# Altium footprint library Adafruit ESP8266 Feather rev E.PcbLib: 21 footprints (part 1 of 2)
Each footprint in its own frame and in the unit in brackets; x right, y up, seen from the top. Pads: shape width x height; smd on the part's side, far side on the other; paste and mask are expansions set on the pad; w line width, h text height; cw(c..) or ccw(c..) is an arc to the next point about the centre after c.
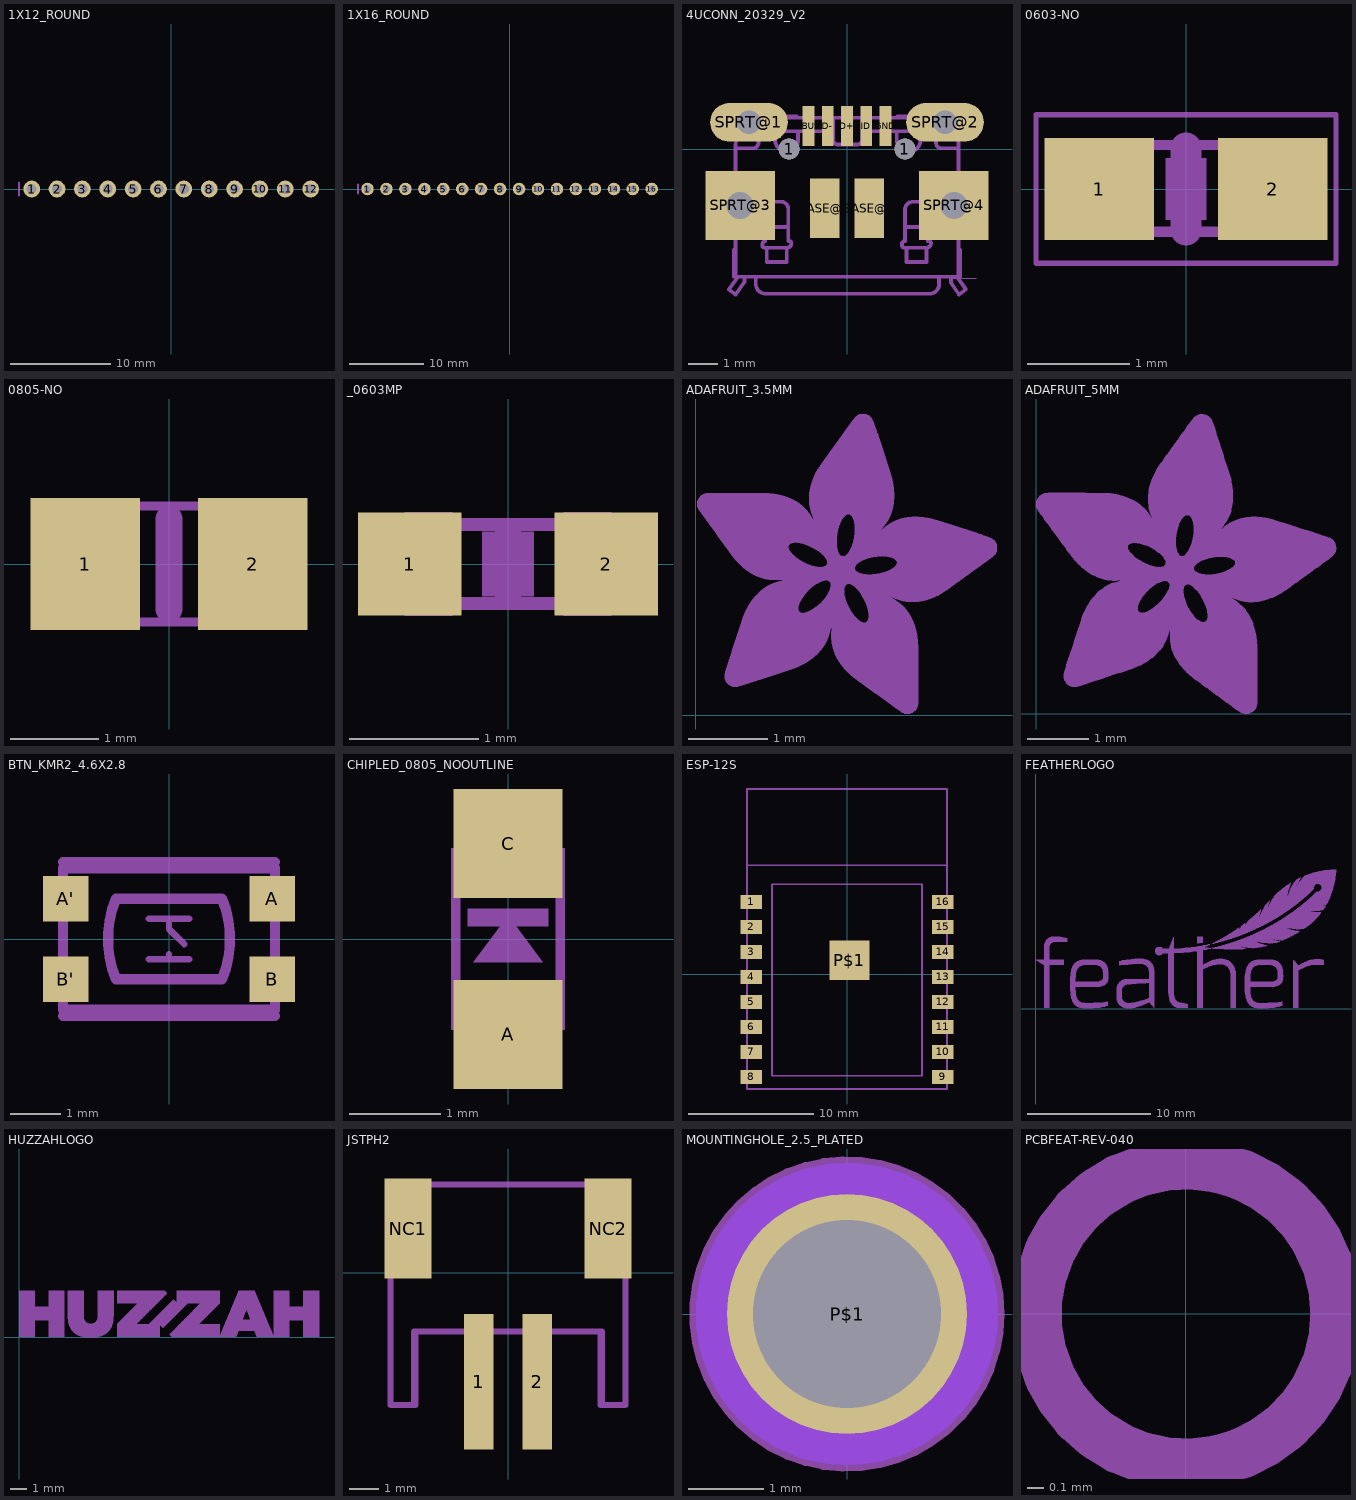
[diagram p0: the footprints below, top view; thin cyan lines are the x and y axes]

## 1X12_ROUND [mil] "1X12_ROUND"
pads (12):
  round 66 / inner round 60 / far side round 66 hole 39.37: 1(-550,0) 2(-450,0) 3(-350,0) 4(-250,0) 5(-150,0) 6(-50,0) 7(50,0) 8(150,0) 9(250,0) 10(350,0) 11(450,0) 12(550,0)
Mechanical 8:
  region: 540,-10 540,10 560,10 560,-10
  region: 440,-10 440,10 460,10 460,-10
  region: 340,-10 340,10 360,10 360,-10
  region: -560,-10 -560,10 -540,10 -540,-10
  region: -460,-10 -460,10 -440,10 -440,-10
  region: -360,-10 -360,10 -340,10 -340,-10
  region: -260,-10 -260,10 -240,10 -240,-10
  region: -160,-10 -160,10 -140,10 -140,-10
  region: -60,-10 -60,10 -40,10 -40,-10
  region: 40,-10 40,10 60,10 60,-10
  region: 140,-10 140,10 160,10 160,-10
  region: 240,-10 240,10 260,10 260,-10
  lines w8: -600,-25 -600,25

## 1X16_ROUND [mil] "1X16_ROUND"
pads (16):
  round 66 / inner round 60 / far side round 66 hole 39.37: 1(-750,0) 2(-650,0) 3(-550,0) 4(-450,0) 5(-350,0) 6(-250,0) 7(-150,0) 8(-50,0) 9(50,0) 10(150,0) 11(250,0) 12(350,0) 13(450,0) 14(550,0) 15(650,0) 16(750,0)
Mechanical 8:
  region: 740,-10 740,10 760,10 760,-10
  region: -760,-10 -760,10 -740,10 -740,-10
  region: -660,-10 -660,10 -640,10 -640,-10
  region: -560,-10 -560,10 -540,10 -540,-10
  region: -460,-10 -460,10 -440,10 -440,-10
  region: -360,-10 -360,10 -340,10 -340,-10
  region: -260,-10 -260,10 -240,10 -240,-10
  region: -160,-10 -160,10 -140,10 -140,-10
  region: -60,-10 -60,10 -40,10 -40,-10
  region: 40,-10 40,10 60,10 60,-10
  region: 140,-10 140,10 160,10 160,-10
  region: 240,-10 240,10 260,10 260,-10
  region: 340,-10 340,10 360,10 360,-10
  region: 440,-10 440,10 460,10 460,-10
  region: 540,-10 540,10 560,10 560,-10
  region: 640,-10 640,10 660,10 660,-10
  lines w8: -800,-25 -800,25

## 4UCONN_20329_V2 [mm] "4UCONN_20329_V2"
pads (13):
  round 0.7 hole 0.7 unplated: 1(-1.95,0) 1(1.95,0)
  rect 1x2 smd: BASE@1(-0.75,-2) BASE@2(0.75,-2)
  rect 0.4x1.35 smd paste+0 mask+0: D+(0,0.775) D-(-0.65,0.775) GND(1.3,0.775) ID(0.65,0.775) VBUS(-1.3,0.775)
  oval 2.616x1.308 / inner round 1.524 / far side oval 2.616x1.308 hole 0.8: SPRT@1(-3.3,0.9) SPRT@2(3.3,0.9)
  rect 2.336x2.336 / inner rect 1.524x1.524 / far side rect 2.336x2.336 hole 0.9: SPRT@3(-3.6,-1.9) SPRT@4(3.6,-1.9)
Top Paste:
  region: 2.75,0.9 2.755,0.786 2.852,0.578 3.021,0.423 3.236,0.345 3.35,0.35 4.45,0.35 4.564,0.345 4.78,0.423 4.948,0.578 5.045,0.786 5.05,0.9 5.045,1.014 4.948,1.222 4.78,1.377 4.564,1.455 4.45,1.45 3.35,1.45 3.236,1.455 3.02,1.377 2.852,1.222 2.755,1.014
  region: -5.05,0.9 -5.045,0.786 -4.948,0.578 -4.78,0.423 -4.564,0.345 -4.45,0.35 -3.35,0.35 -3.236,0.345 -3.021,0.423 -2.852,0.578 -2.755,0.786 -2.75,0.9 -2.755,1.014 -2.852,1.222 -3.02,1.377 -3.236,1.455 -3.35,1.45 -4.45,1.45 -4.564,1.455 -4.78,1.377 -4.948,1.222 -5.045,1.014
  region: 1.15,0.15 1.15,1.4 1.45,1.4 1.45,0.15
  region: 0.5,0.15 0.5,1.4 0.8,1.4 0.8,0.15
  region: -0.15,0.15 -0.15,1.4 0.15,1.4 0.15,0.15
  region: -0.8,0.15 -0.8,1.4 -0.5,1.4 -0.5,0.15
  region: -1.45,0.15 -1.45,1.4 -1.15,1.4 -1.15,0.15
  region: 2.35,-3.15 2.35,-0.65 4.85,-0.65 4.85,-3.15
  region: -4.85,-3.15 -4.85,-0.65 -2.35,-0.65 -2.35,-3.15
Top Solder:
  region: 1.05,0.05 1.05,1.5 1.55,1.5 1.55,0.05
  region: 0.4,0.05 0.4,1.5 0.9,1.5 0.9,0.05
  region: -0.25,0.05 -0.25,1.5 0.25,1.5 0.25,0.05
  region: -0.9,0.05 -0.9,1.5 -0.4,1.5 -0.4,0.05
  region: -1.55,0.05 -1.55,1.5 -1.05,1.5 -1.05,0.05
Mechanical 1:
  lines w0: -4.05,-2.15 ccw(c-3.675,-2.175) -3.7,-2.55 -3.5,-2.55 ccw(c-3.525,-2.175) -3.15,-2.15 -3.15,-1.6 ccw(c-3.5,-1.6) -3.5,-1.25 -3.7,-1.25 ccw(c-3.7,-1.6) -4.05,-1.6 -4.05,-2.15 ; 3.15,-2.2 ccw(c3.55,-2.15) 3.6,-2.55 ccw(c3.65,-2.15) 4.05,-2.2 4.05,-1.6 ccw(c3.65,-1.65) 3.6,-1.25 ccw(c3.55,-1.65) 3.15,-1.6 3.15,-2.2
Mechanical 8:
  lines w0: 3.5,-4.35 4.35,-4.35
  lines w0.127: -3.725,0.025 -3.175,0.025 ccw(c-3.175,0.225) -2.975,0.225 -2.975,0.45 cw(c-2.825,0.45) -2.825,0.6 ; -3.425,0.625 -3.425,0.75 -3.575,0.75 -3.575,1.05 -0.475,1.05 ; -2,-3.325 -2.7,-3.325 ; -2,-2.625 -2.75,-2.625 ; -0.125,0.175 -0.125,0.65 0.1,0.65 0.1,0.175 ; 2.7,-3.325 2,-3.325 ; 2.7,-2.625 1.95,-2.625 ; 3.5,-4.35 3.5,-4.5 3.775,-4.9 4,-4.725 3.7,-4.3 ; 3.725,0.025 3.175,0.025 cw(c3.175,0.2) 3,0.2 3,0.525 ccw(c2.925,0.525) 2.925,0.6 ; -3.675,-4.3 -3.975,-4.725 -3.75,-4.9 -3.45,-4.475 -3.45,-4.3 ; -3.675,-4.3 -3.75,-4.3 -3.75,0.125 cw(c-3.275,0.125) -3.275,0.6 -2.825,0.6 ; -3.675,-4.3 -3.45,-4.3 ; -3.45,-4.3 -3.075,-4.3 ; -3.075,-4.3 -3.075,-4.525 ccw(c-2.725,-4.525) -2.725,-4.875 2.775,-4.875 ccw(c2.775,-4.55) 3.1,-4.55 3.1,-4.3 ; -3.075,-4.3 3.1,-4.3 ; -2.825,0.6 -2.5,0.6 ; -2.75,-2.625 -2.75,-2.05 cw(c-2.475,-2.05) -2.475,-1.775 -2.225,-1.775 cw(c-2.225,-2.025) -1.975,-2.025 -1.975,-3.1 -1.95,-3.1 cw(c-1.95,-3.175) -1.875,-3.175 cw(c-2.025,-3.175) -2.025,-3.325 -2.025,-3.8 -2.7,-3.8 -2.7,-3.325 ; -2.75,-2.625 -2.75,-3.1 ccw(c-2.75,-3.2) -2.85,-3.2 -2.85,-3.225 ccw(c-2.762,-3.238) -2.775,-3.325 -2.7,-3.325 ; -2.5,0.6 cw(c-2.5,0.525) -2.425,0.525 -2.425,0.325 ccw(c-2,0.325) -2,-0.1 ccw(c-2,0.25) -1.65,0.25 -1.65,0.6 ; -2.5,0.6 -1.65,0.6 ; -1.65,0.6 -0.475,0.6 ; -0.475,0.6 -0.475,1.05 ; -0.475,0.6 -0.475,0.325 ccw(c-0.3,0.325) -0.3,0.15 0.325,0.15 ccw(c0.325,0.35) 0.525,0.35 0.525,0.6 ; -0.475,1.05 0.525,1.05 ; 0.525,0.6 0.525,1.05 ; 0.525,0.6 1.675,0.6 ; 0.525,1.05 3.6,1.05 3.6,0.775 3.35,0.775 3.35,0.6 ; 1.675,0.6 1.675,0.3 ccw(c2.075,0.3) 2.075,-0.1 ccw(c2.075,0.3) 2.475,0.3 2.475,0.6 ; 1.675,0.6 2.475,0.6 ; 1.95,-2.625 1.95,-2.05 cw(c2.225,-2.05) 2.225,-1.775 2.475,-1.775 cw(c2.475,-2.025) 2.725,-2.025 2.725,-3.1 2.75,-3.1 cw(c2.75,-3.175) 2.825,-3.175 cw(c2.675,-3.175) 2.675,-3.325 2.675,-3.8 2,-3.8 2,-3.325 ; 1.95,-2.625 1.95,-3.1 ccw(c1.95,-3.2) 1.85,-3.2 1.85,-3.225 ccw(c1.938,-3.237) 1.925,-3.325 2,-3.325 ; 2.475,0.6 2.925,0.6 ; 2.925,0.6 3.35,0.6 ; 3.1,-4.3 3.7,-4.3 ; 3.35,0.6 cw(c3.35,0.2) 3.75,0.2 3.75,-4.3 3.7,-4.3
Mechanical 16:
  lines w0.127: -3.8,-3.4 -3.8,-4.3 3.8,-4.3 3.8,-3.4 ; -2.5,1.1 -1.7,1.1 ; 1.7,1.1 2.5,1.1

## 0603-NO [mm] "0603-NO"
pads (2):
  rect 1.075x1 smd: 1(-0.85,0) 2(0.85,0)
Mechanical 8:
  region: -0.838,-0.47 -0.838,0.48 -0.338,0.48 -0.338,-0.47
  region: 0.33,-0.47 0.33,0.48 0.83,0.48 0.83,-0.47
  lines w0.102: -0.356,-0.419 0.356,-0.419 ; -0.356,0.432 0.356,0.432
Mechanical 16:
  region: -0.2,-0.3 -0.2,0.3 0.2,0.3 0.2,-0.3
  lines w0.051: -1.473,-0.729 1.473,-0.729 1.473,0.729 -1.473,0.729 -1.473,-0.729
  lines w0.305: 0,-0.4 0,0.4

## 0805-NO [mm] "0805-NO"
pads (2):
  rect 1.24x1.5 smd: 1(-0.95,0) 2(0.95,0)
Mechanical 8:
  region: 0.356,-0.724 0.356,0.726 1.106,0.726 1.106,-0.724
  region: -1.092,-0.724 -1.092,0.726 -0.342,0.726 -0.342,-0.724
  lines w0.102: -0.381,0.66 0.381,0.66 ; -0.356,-0.66 0.381,-0.66
Mechanical 16:
  lines w0.305: 0,-0.508 0,0.508

## _0603MP [mil] "_0603MP"
pads (2):
  rect 31.5x31.5 smd: 1(-30,0) 2(30,0)
Mechanical 8:
  region: 17,-15.75 17,15.75 31.5,15.75 31.5,-15.75
  region: -31.5,-15.75 -31.5,15.75 -17,15.75 -17,-15.75
  lines w4: -17.01,-12.05 17.01,-12.05 ; -17.01,12.05 17.01,12.05
Mechanical 16:
  region: -7.87,-9.84 -7.87,9.84 7.87,9.84 7.87,-9.84
  lines w8: 0,-10 0,10

## ADAFRUIT_3.5MM [mm] "ADAFRUIT_3.5MM"
Mechanical 16:
  drawing of 1122 lines, arcs and shapes, not listed

## ADAFRUIT_5MM [mm] "ADAFRUIT_5MM"
Mechanical 16:
  drawing of 1191 lines, arcs and shapes, not listed

## BTN_KMR2_4.6X2.8 [mil] "BTN_KMR2_4.6X2.8"
pads (4):
  rect 35.43x35.43 smd: A(80.71,31.5) A'(-80.71,31.5) B(80.71,-31.5) B'(-80.71,-31.5)
Mechanical 8:
  lines w5: -15.75,-15.75 0,-15.75 ; -15.75,15.75 0,15.75 ; 0,-11.81 0,-15.75 ; 11.81,-3.94 0,7.87 0,15.75 ; 15.75,-15.75 0,-15.75 ; 15.75,15.75 0,15.75
  lines w8: -82.68,-55.12 -82.68,55.12 82.68,55.12 82.68,-55.12 -82.68,-55.12 ; -41.34,-31.5 cw(c34.71,0) -41.34,31.5 41.34,31.5 cw(c-34.71,0) 41.34,-31.5 -41.34,-31.5
Mechanical 16:
  lines w8: -82.68,-60.06 82.68,-60.06 ; -82.68,60.06 82.68,60.06

## CHIPLED_0805_NOOUTLINE [mm] "CHIPLED_0805_NOOUTLINE"
pads (2):
  rect 1.2x1.2 smd: A(0,-1.05) C(0,1.05)
Mechanical 8:
  circle w0.076: c-0.45,0.85 r0.103
  region: -0.625,0.925 -0.625,1 -0.3,1 -0.3,0.925
  region: -0.6,0.5 -0.6,0.762 -0.3,0.762 -0.3,0.5
  region: -0.2,-0.675 -0.2,-0.5 0.2,-0.5 0.2,-0.675
  region: -0.325,-0.75 -0.325,-0.5 -0.175,-0.5 -0.175,-0.75
  region: 0.175,-0.75 0.175,-0.5 0.325,-0.5 0.325,-0.75
  region: -0.625,-1 -0.625,-0.5 -0.3,-0.5 -0.3,-1
  region: 0.3,-1 0.3,-0.5 0.625,-0.5 0.625,-1
  region: -0.2,0.5 -0.2,0.675 0.2,0.675 0.2,0.5
  region: 0.175,0.5 0.175,0.75 0.325,0.75 0.325,0.5
  region: -0.325,0.5 -0.325,0.75 -0.175,0.75 -0.175,0.5
  region: 0.3,0.5 0.3,1 0.625,1 0.625,0.5
  lines w0.102: -0.575,-0.5 -0.575,0.925 ; -0.35,-0.925 cw(c0,-0.979) 0.35,-0.925 ; -0.35,0.925 ccw(c0,0.979) 0.35,0.925 ; 0.575,-0.525 0.575,0.525
Mechanical 16:
  region: 0,0.254 -0.381,-0.254 0.381,-0.254
  region: -0.445,0.14 -0.445,0.331 0.445,0.331 0.445,0.14

## ESP-12S [mm] "ESP-12S"
pads (17):
  rect 1.7x1.1 smd: 1(-7.65,5.77) 2(-7.65,3.77) 3(-7.65,1.77) 4(-7.65,-0.23) 5(-7.65,-2.23) 6(-7.65,-4.23) 7(-7.65,-6.23) 8(-7.65,-8.23) 9(7.65,-8.23) 10(7.65,-6.23) 11(7.65,-4.23) 12(7.65,-2.23) 13(7.65,-0.23) 14(7.65,1.77) 15(7.65,3.77) 16(7.65,5.77)
  rect 3.2x3.2 smd paste+0: P$1(0.2,1.1)
Top Paste:
  region: -1.016,-0.254 -1.016,0.762 0,0.762 0,-0.254
  region: 0.508,-0.254 0.508,0.762 1.524,0.762 1.524,-0.254
  region: 0.508,1.27 0.508,2.286 1.524,2.286 1.524,1.27
  region: -1.016,1.27 -1.016,2.286 0,2.286 0,1.27
Mechanical 16:
  lines w0.127: -8,8.7 8,8.7 ; -8,8.7 -8,14.8 8,14.8 8,8.7 ; -8,8.7 -8,-9.2 8,-9.2 8,8.7 ; -6,-8.13 -6,7.17 6,7.17 6,-8.13 -6,-8.13

## FEATHERLOGO [mm] "FEATHERLOGO"
Mechanical 16:
  drawing of 2338 lines, arcs and shapes, not listed

## HUZZAHLOGO [mm] "HUZZAHLOGO"
Mechanical 16:
  drawing of 4931 lines, arcs and shapes, not listed

## JSTPH2 [mm] "JSTPH2"
pads (4):
  rect 1x4.6 smd: 1(-1,-3.7) 2(1,-3.7)
  rect 1.6x3.4 smd: NC1(-3.4,1.5) NC2(3.4,1.5)
Mechanical 8:
  lines w0.203: -4,-4.5 -3.2,-4.5 -3.2,-2 3.2,-2 3.2,-4.5 4,-4.5 4,3 -4,3 -4,-4.5
Mechanical 16:
  lines w0.203: -4,-0.5 -4,-4.5 -3.15,-4.5 -3.15,-2 -1.75,-2 ; -2.25,3 2.25,3 ; 1.75,-2 3.15,-2 3.15,-4.5 4,-4.5 4,-0.5

## MOUNTINGHOLE_2.5_PLATED [mm] "MOUNTINGHOLE_2.5_PLATED"
pads (1):
  round 3.2 / inner round 1.524 / far side round 3.2 hole 2.5: P$1(0,0)
Top Layer keep-out:
  circle w2.032: c0,0 r1
Bottom Layer keep-out:
  circle w2.032: c0,0 r1
Mechanical 16:
  circle w2.032: c0,0 r1
  circle w0.203: c0,0 r2
  circle w2.032: c0,0 r1

## PCBFEAT-REV-040 [mm] "PCBFEAT-REV-040"
Mechanical 16:
  circle w0.305: c0,0 r0.898